# Altium schematic symbol library ADMP441.SchLib: 1 symbol
Pins are listed as number, name and electrical type; pins without a type are passive.

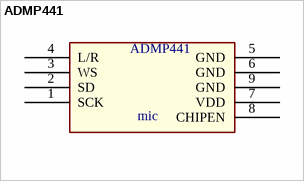
[diagram p0: symbol ADMP441]

## ADMP441
designator mic
footprint ADMP441
pins: 1 SCK, 2 SD, 3 WS, 4 L/R, 5 GND, 6 GND, 7 VDD, 8 CHIPEN, 9 GND